# EAGLE library part B10B-PH-* (library jst-ph)
Wire-to-Board 2.0mm pitch top mount connector Source: http://www.jst-mfg.com/product/pdf/jpn/PH.pdf http://www.jst-mfg.com/product/detail.php?series=199
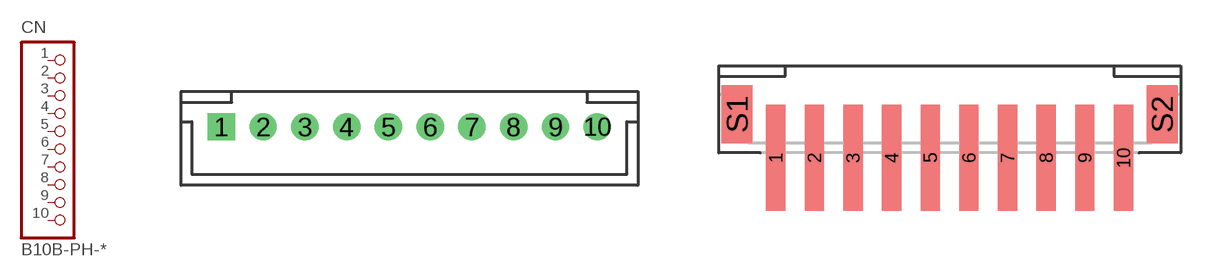
[diagram p4: symbol with the pads of B10B-PH-K-S; footprints B10B-PH-K-S, B10B-PH-SM4-TB]

Designator prefix CN

## B10B-PH-K-S  [B10B-PH-K-S]
1  1  pas
2  2  pas
3  3  pas
4  4  pas
5  5  pas
6  6  pas
7  7  pas
8  8  pas
9  9  pas
10  10  pas

## B10B-PH-SM4-TB  [B10B-PH-SM4-TB]
Pads as for B10B-PH-K-S

## Footprint B10B-PH-K-S (pad centres in mm)
drill 0.8 square: 1 -9,0
drill 0.8: 2 -7,0; 3 -5,0; 4 -3,0; 5 -1,0; 6 1,0; 7 3,0; 8 5,0; 9 7,0; 10 9,0

## Footprint B10B-PH-SM4-TB (pad centres in mm)
smd 1 x 5.5: 1 -9,-3.05; 2 -7,-3.05; 3 -5,-3.05; 4 -3,-3.05; 5 -1,-3.05; 6 1,-3.05; 7 3,-3.05; 8 5,-3.05; 9 7,-3.05; 10 9,-3.05
smd 1.6 x 3: S1 -11,-0.8; S2 11,-0.8